# Altium footprint library ME218D_GM_2017.PcbLib: 19 footprints (part 1 of 2)
Each footprint in its own frame and in the unit in brackets; x right, y up, seen from the top. Pads: shape width x height; smd on the part's side, far side on the other; paste and mask are expansions set on the pad; w line width, h text height; cw(c..) or ccw(c..) is an arc to the next point about the centre after c.
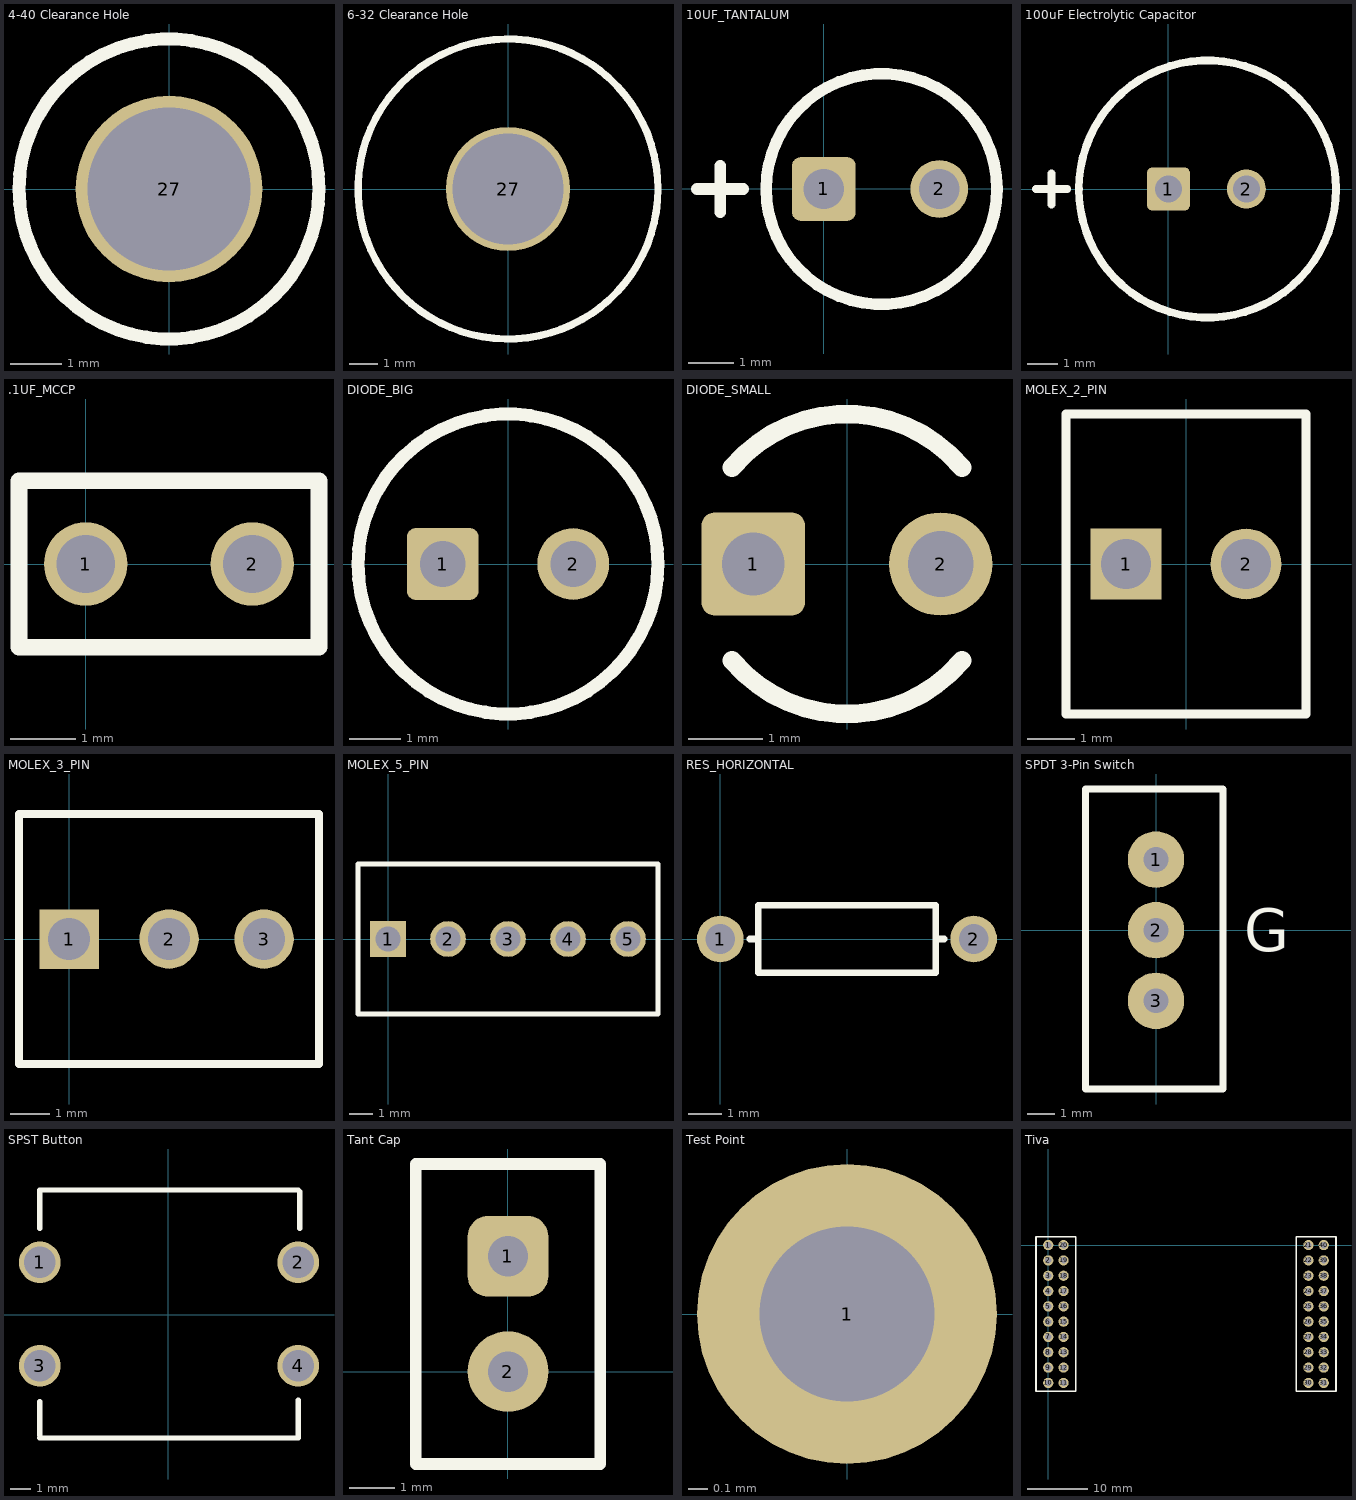
[diagram p0: the footprints below, top view; thin cyan lines are the x and y axes]

## 4-40 Clearance Hole [mil]
pads (1):
  round 143 hole 125 paste+0 mask+0: 27(0,0)
Top Overlay:
  circle w10: c0,0 r115

## 6-32 Clearance Hole [mil]
pads (1):
  round 170 hole 152 paste+0 mask+0: 27(0,0)
Top Overlay:
  circle w10: c0,0 r205

## 10UF_TANTALUM [mil]
pads (2):
  rrect25% 55.12x55.12 hole 35: 1(0,0)
  round 50 hole 35: 2(100,0)
Top Overlay:
  circle w10: c50,0 r100
  lines w10: -110,0 -70,0 ; -90,-20 -90,20

## 100uF Electrolytic Capacitor [mil]
pads (2):
  rrect25% 55.12x55.12 hole 35: 1(0,0)
  round 50 hole 35: 2(100,0)
Top Overlay:
  circle w10: c50,0 r165
  lines w10: -170,0 -130,0 ; -150,-20 -150,20

## .1UF_MCCP [mil]
pads (2):
  round 50 hole 35: 1(0,0) 2(100,0)
Top Overlay:
  lines w10: -40,-50 -40,50 140,50 140,25 140,-25 140,-50 -40,-50

## DIODE_BIG [mm]
pads (2):
  rrect25% 1.4x1.4 hole 0.889: 1(-1.27,0)
  round 1.4 hole 0.889: 2(1.27,0)
Top Overlay:
  circle w0.254: c0,0 r2.921

## DIODE_SMALL [mm]
pads (2):
  rrect25% 1.4x1.4 hole 0.85: 1(-1.27,0)
  round 1.4 hole 0.889: 2(1.27,0)
Top Overlay:
  lines w0.254: -1.557,-1.306 ccw(c0,0) 1.557,-1.306 ; -1.557,1.306 cw(c0,0) 1.557,1.306

## MOLEX_2_PIN [mm]
pads (2):
  rect 1.5x1.5 hole 1.067: 1(-1.27,0)
  round 1.5 hole 1.067: 2(1.27,0)
Top Overlay:
  lines w0.2: -2.54,-3.175 -2.54,3.175 2.54,3.175 2.54,-3.175 -2.54,-3.175

## MOLEX_3_PIN [mil]
pads (3):
  rect 59.5x59.5 hole 42: 1(0,0)
  round 59.5 hole 42: 2(100,0) 3(195,0)
Top Overlay:
  lines w7.87: -50,-125 250,-125 250,125 -50,125 -50,-125

## MOLEX_5_PIN [mil]
pads (5):
  rect 59.5x59.5 hole 42: 1(0,0)
  round 59.5 hole 42: 2(100,0) 3(200,0) 4(300,0) 5(400,0)
Top Overlay:
  lines w7.87: -50,-125 -50,125 450,125 450,-125 -50,-125

## RES_HORIZONTAL [mm]
pads (2):
  round 1.4 hole 0.889: 1(0,0) 2(7.62,0)
Top Overlay:
  lines w0.2: 0.889,0 1.143,0 ; 6.604,0 6.731,0 ; 1.143,-1.016 6.477,-1.016 6.477,-0.508 6.477,0.508 6.477,1.016 1.143,1.016 1.143,-1.016

## SPDT 3-Pin Switch [mil]
pads (3):
  round 80 hole 35 mask+4: 1(0,100)
  round 80 hole 35: 2(0,0) 3(0,-100)
Top Overlay:
  lines w10: -100,-225 95,-225 95,200 -100,200 -100,-225
  text "G" at 125,-30 h60

## SPST Button [mil] "SPST Button Jameco 122973"
pads (4):
  round 79.5 hole 59.5: 1(-245,100) 2(247.1,100) 3(-245,-96.9) 4(247.1,-96.9)
Top Overlay:
  lines w10: -245,-234.6 247.1,-234.6 247.1,-162.1 ; -245,-230 -245,-165 ; -245,165 -245,235 ; -245,237.8 247.2,237.8 250,235 250,165

## Tant Cap [mil]
pads (2):
  rrect50% 70x70 hole 35 mask+4: 1(0,100)
  round 70 hole 35: 2(0,0)
Top Overlay:
  lines w10: -80,-80 -80,180 80,180 80,-80 -80,-80

## Test Point [mil]
pads (1):
  round 60 hole 35: 1(0,0)

## Tiva [mm] "Tiva TM4C123G LaunchPad"
height 8
pads (40):
  round 1.7 hole 1.067: 1(0,0) 2(0,-2.54) 3(0,-5.08) 4(0,-7.62) 5(0,-10.16) 6(0,-12.7) 7(0,-15.24) 8(0,-17.78) 9(0,-20.32) 10(0,-22.86) 11(2.54,-22.86) 12(2.54,-20.32) 13(2.54,-17.78) 14(2.54,-15.24) 15(2.54,-12.7) 16(2.54,-10.16) 17(2.54,-7.62) 18(2.54,-5.08) 19(2.54,-2.54) 20(2.54,0) 21(43.18,0) 22(43.18,-2.54) 23(43.18,-5.08) 24(43.18,-7.62) 25(43.18,-10.16) 26(43.18,-12.7) 27(43.18,-15.24) 28(43.18,-17.78) 29(43.18,-20.32) 30(43.18,-22.86) 31(45.72,-22.86) 32(45.72,-20.32) 33(45.72,-17.78) 34(45.72,-15.24) 35(45.72,-12.7) 36(45.72,-10.16) 37(45.72,-7.62) 38(45.72,-5.08) 39(45.72,-2.54) 40(45.72,0)
Top Overlay:
  lines w0.254: -2.032,-24.257 4.572,-24.257 4.572,1.397 -2.032,1.397 -2.032,-22.733 -2.032,-24.257 ; 41.148,-24.257 41.148,1.397 47.752,1.397 47.752,-24.257 41.148,-24.257